# Altium integrated library TI Data Converters Digital to Analog Converter.IntLib: 1533 symbols (part 94 of 99)
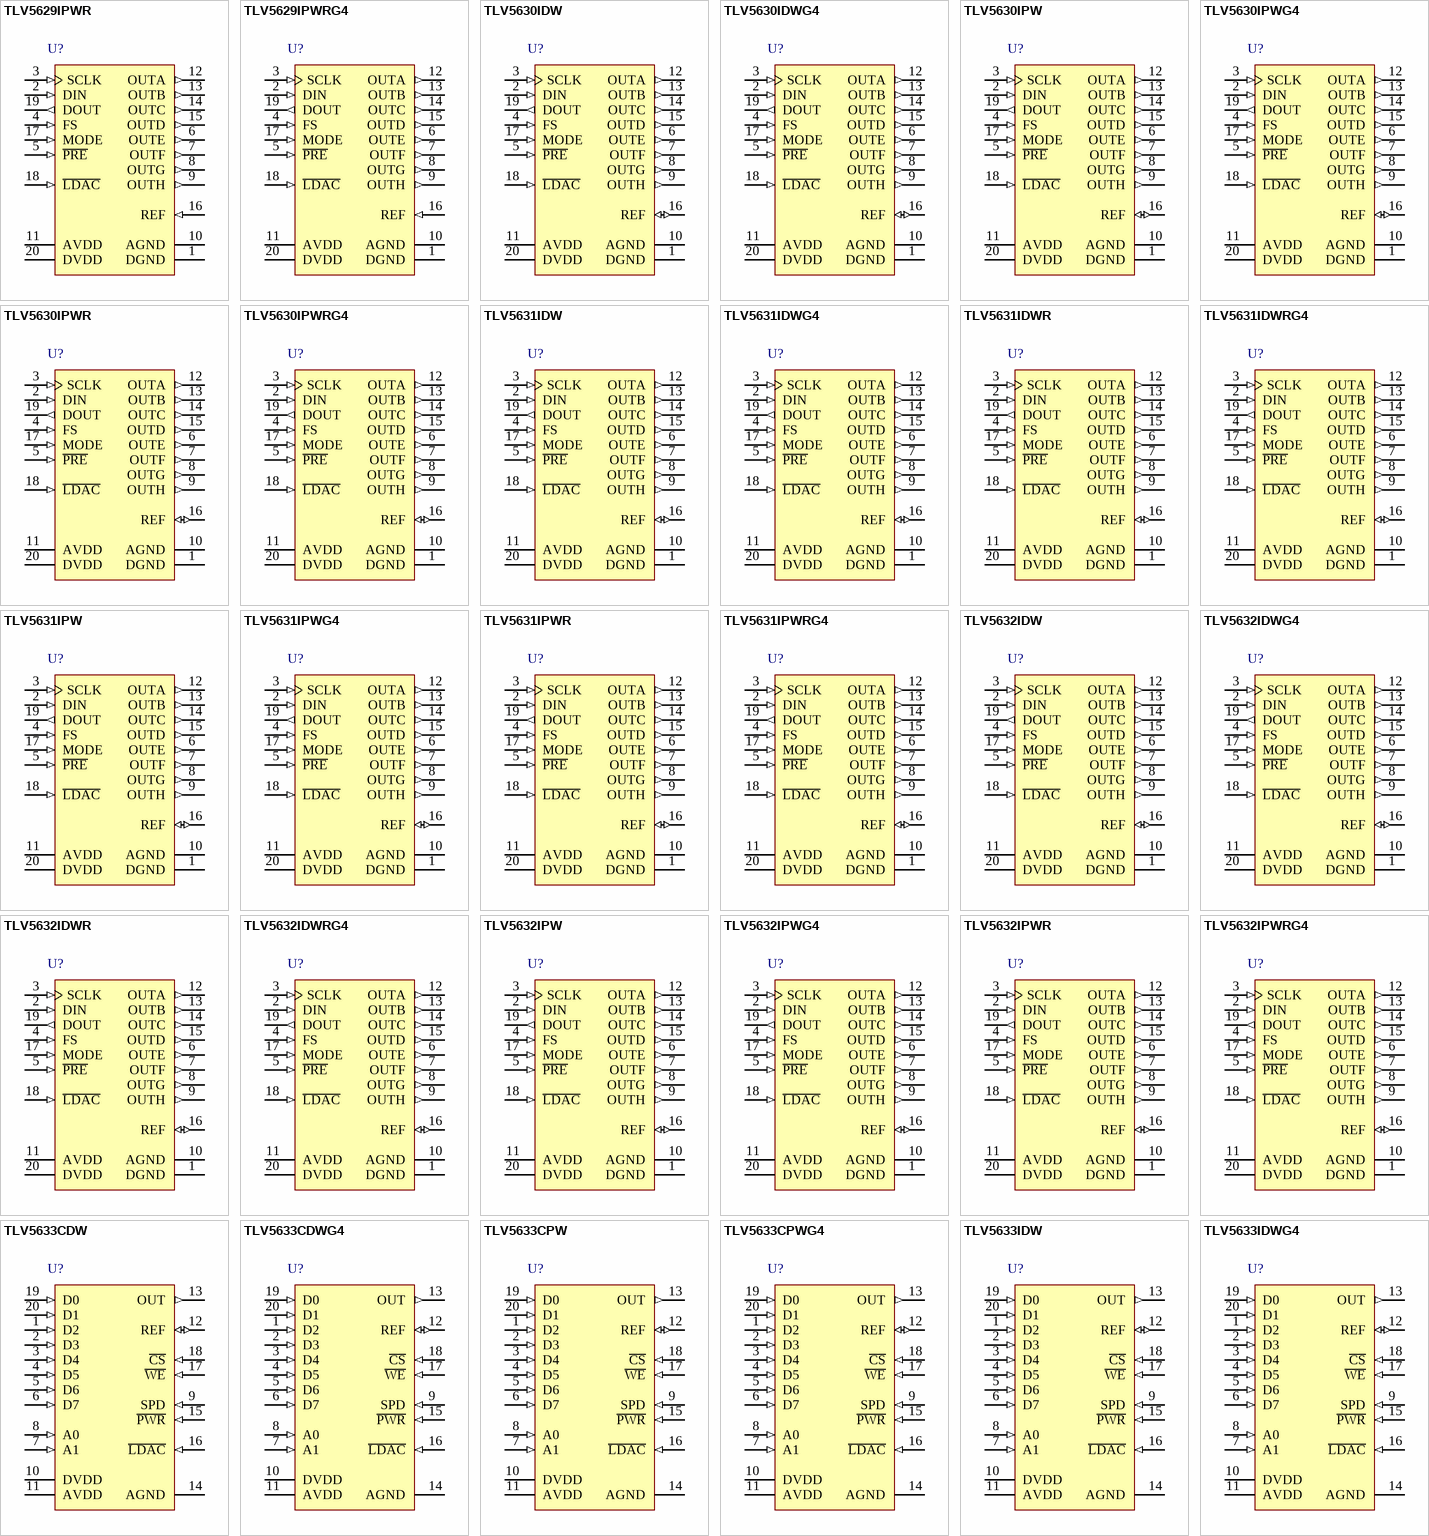
[diagram p166: symbols TLV5629IPWR to TLV5633IDWG4]

## TLV5631IDWR
designator U?
2.7 to 5.5 V 10-Bit 8-Channel Serial DAC with Internal Reference, -40 to 85 degC, 20-pin SOIC (DW20), Green (RoHS & no Sb/Br); Manufacturer: Texas Instruments; PartNumber: TLV5631IDWR; DAC Channels: 8; DNL(Max)(+/-LSB): 1; INL(Max)(+/-LSB): 2; Interface: Serial SPI; Power Consumption(Typ)(mW): 18; Resolution(Bits): 10; SubFamily: Precision DAC (=<10MSPS); DatasheetVersion: SLAS269F; PackageVersion: 4040000-4/G, 01/2011; PackageReference: DW20; PackageDescription: 20-Pin Plastic Small Outline, Body 12.8 x 7.5 mm, Pitch 1.27 mm; Supplier 1: Digi-Key; Supplier Part Number 1: TLV5631IDWR-ND; Supplier 2: Mouser; Supplier Part Number 2: 595-TLV5631IDWR; Eco-Plan: Green (RoHS & no Sb/Br); Settling Time(us): 1; Mounting Technology: Surface Mount; Code_JEDEC: MO-013; ComponentLink1Description: Manufacturer URL; ComponentLink1URL: http://www.ti.com/; ComponentLink2Description: Datasheet; ComponentLink2URL: http://www.ti.com/general/docs/lit/getliterature.tsp?genericPartNumber=TLV5631&fileType=pdf; ComponentLink3Description: Package Specification; ComponentLink3URL: http://www.ti.com/lit/ml/mpds173a/mpds173a.pdf
footprint TI-DW20_N (SOIC, 20-Leads, Body 12.8x7.5mm, Pitch 1.27mm, IPC Medium Density)
footprint TI-DW20_L (SOIC, 20-Leads, Body 12.8x7.5mm, Pitch 1.27mm, IPC High Density)
footprint TI-DW20_M (SOIC, 20-Leads, Body 12.8x7.5mm, Pitch 1.27mm, IPC Low Density)
pins: 1 DGND (power) "Digital ground", 2 DIN (in) "Digital serial data input", 3 SCLK (in) "Serial clock input", 4 FS (in) "Frame sync input", 5 ~{PRE} (in) "Preset input", 6 OUTE (out) "DAC output", 7 OUTF (out) "DAC output", 8 OUTG (out) "DAC output", 9 OUTH (out) "DAC output", 10 AGND (power) "Analog ground", 11 AVDD (power) "Analog power supply", 12 OUTA (out) "DAC output", 13 OUTB (out) "DAC output", 14 OUTC (out) "DAC output", 15 OUTD (out) "DAC output", 16 REF (io) "Voltage reference input/output", 17 MODE (in) "DSP/uC mode pin. High = uC mode, NC = DSP mode.", 18 ~{LDAC} (in) "Load DAC. The DAC outputs are only updated, if this signal is low. It is an asynchronous input.", 19 DOUT (out) "Digital serial data output", 20 DVDD (power) "Digital power supply"

## TLV5631IDWRG4
designator U?
2.7 to 5.5 V 10-Bit 8-Channel Serial DAC with Internal Reference, -40 to 85 degC, 20-pin SOIC (DW20), Green (RoHS & no Sb/Br); Manufacturer: Texas Instruments; PartNumber: TLV5631IDWRG4; DAC Channels: 8; DNL(Max)(+/-LSB): 1; INL(Max)(+/-LSB): 2; Interface: Serial SPI; Power Consumption(Typ)(mW): 18; Resolution(Bits): 10; SubFamily: Precision DAC (=<10MSPS); DatasheetVersion: SLAS269F; PackageVersion: 4040000-4/G, 01/2011; PackageReference: DW20; PackageDescription: 20-Pin Plastic Small Outline, Body 12.8 x 7.5 mm, Pitch 1.27 mm; Supplier 1: Digi-Key; Supplier Part Number 1: TLV5631IDWRG4-ND; Supplier 2: Mouser; Supplier Part Number 2: 595-TLV5631IDWRG4; Eco-Plan: Green (RoHS & no Sb/Br); Settling Time(us): 1; Mounting Technology: Surface Mount; Code_JEDEC: MO-013; ComponentLink1Description: Manufacturer URL; ComponentLink1URL: http://www.ti.com/; ComponentLink2Description: Datasheet; ComponentLink2URL: http://www.ti.com/general/docs/lit/getliterature.tsp?genericPartNumber=TLV5631&fileType=pdf; ComponentLink3Description: Package Specification; ComponentLink3URL: http://www.ti.com/lit/ml/mpds173a/mpds173a.pdf
footprint TI-DW20_N (SOIC, 20-Leads, Body 12.8x7.5mm, Pitch 1.27mm, IPC Medium Density)
footprint TI-DW20_L (SOIC, 20-Leads, Body 12.8x7.5mm, Pitch 1.27mm, IPC High Density)
footprint TI-DW20_M (SOIC, 20-Leads, Body 12.8x7.5mm, Pitch 1.27mm, IPC Low Density)
pins: 1 DGND (power) "Digital ground", 2 DIN (in) "Digital serial data input", 3 SCLK (in) "Serial clock input", 4 FS (in) "Frame sync input", 5 ~{PRE} (in) "Preset input", 6 OUTE (out) "DAC output", 7 OUTF (out) "DAC output", 8 OUTG (out) "DAC output", 9 OUTH (out) "DAC output", 10 AGND (power) "Analog ground", 11 AVDD (power) "Analog power supply", 12 OUTA (out) "DAC output", 13 OUTB (out) "DAC output", 14 OUTC (out) "DAC output", 15 OUTD (out) "DAC output", 16 REF (io) "Voltage reference input/output", 17 MODE (in) "DSP/uC mode pin. High = uC mode, NC = DSP mode.", 18 ~{LDAC} (in) "Load DAC. The DAC outputs are only updated, if this signal is low. It is an asynchronous input.", 19 DOUT (out) "Digital serial data output", 20 DVDD (power) "Digital power supply"

## TLV5631IPW
designator U?
2.7 to 5.5 V 10-Bit 8-Channel Serial DAC with Internal Reference, -40 to 85 degC, 20-pin SOP (PW20), Green (RoHS & no Sb/Br); Manufacturer: Texas Instruments; PartNumber: TLV5631IPW; DAC Channels: 8; DNL(Max)(+/-LSB): 1; INL(Max)(+/-LSB): 2; Interface: Serial SPI; Power Consumption(Typ)(mW): 18; Resolution(Bits): 10; SubFamily: Precision DAC (=<10MSPS); DatasheetVersion: SLAS269F; PackageVersion: 4040064-5/G, 02/2011; PackageReference: PW20; PackageDescription: 20-Pin Plastic Small Outline, Body 6.5 x 4.4 mm, Pitch 0.65 mm; Supplier 1: Digi-Key; Supplier Part Number 1: 296-3068-5-ND; Supplier 2: Farnell; Supplier Part Number 2: 1460327; Supplier 3: Newark; Supplier Part Number 3: 62M0549; Supplier 4: Newark; Supplier Part Number 4: 72K9580; Supplier 5: Mouser; Supplier Part Number 5: 595-TLV5631IPW; Eco-Plan: Green (RoHS & no Sb/Br); Settling Time(us): 1; Mounting Technology: Surface Mount; Code_JEDEC: MO-153; ComponentLink1Description: Manufacturer URL; ComponentLink1URL: http://www.ti.com/; ComponentLink2Description: Datasheet; ComponentLink2URL: http://www.ti.com/general/docs/lit/getliterature.tsp?genericPartNumber=TLV5631&fileType=pdf; ComponentLink3Description: Package Specification; ComponentLink3URL: http://www.ti.com.cn/cn/lit/ml/mpds362/mpds362.pdf
footprint TI-PW20_N (SOP, 20-Leads, Body 6.5x4.4mm, Pitch 0.65mm, IPC Medium Density)
footprint TI-PW20_L (SOP, 20-Leads, Body 6.5x4.4mm, Pitch 0.65mm, IPC High Density)
footprint TI-PW20_M (SOP, 20-Leads, Body 6.5x4.4mm, Pitch 0.65mm, IPC Low Density)
pins: 1 DGND (power) "Digital ground", 2 DIN (in) "Digital serial data input", 3 SCLK (in) "Serial clock input", 4 FS (in) "Frame sync input", 5 ~{PRE} (in) "Preset input", 6 OUTE (out) "DAC output", 7 OUTF (out) "DAC output", 8 OUTG (out) "DAC output", 9 OUTH (out) "DAC output", 10 AGND (power) "Analog ground", 11 AVDD (power) "Analog power supply", 12 OUTA (out) "DAC output", 13 OUTB (out) "DAC output", 14 OUTC (out) "DAC output", 15 OUTD (out) "DAC output", 16 REF (io) "Voltage reference input/output", 17 MODE (in) "DSP/uC mode pin. High = uC mode, NC = DSP mode.", 18 ~{LDAC} (in) "Load DAC. The DAC outputs are only updated, if this signal is low. It is an asynchronous input.", 19 DOUT (out) "Digital serial data output", 20 DVDD (power) "Digital power supply"

## TLV5631IPWG4
designator U?
2.7 to 5.5 V 10-Bit 8-Channel Serial DAC with Internal Reference, -40 to 85 degC, 20-pin SOP (PW20), Green (RoHS & no Sb/Br); Manufacturer: Texas Instruments; PartNumber: TLV5631IPWG4; DAC Channels: 8; DNL(Max)(+/-LSB): 1; INL(Max)(+/-LSB): 2; Interface: Serial SPI; Power Consumption(Typ)(mW): 18; Resolution(Bits): 10; SubFamily: Precision DAC (=<10MSPS); DatasheetVersion: SLAS269F; PackageVersion: 4040064-5/G, 02/2011; PackageReference: PW20; PackageDescription: 20-Pin Plastic Small Outline, Body 6.5 x 4.4 mm, Pitch 0.65 mm; Supplier 1: Digi-Key; Supplier Part Number 1: TLV5631IPWG4-ND; Supplier 2: Mouser; Supplier Part Number 2: 595-TLV5631IPWG4; Eco-Plan: Green (RoHS & no Sb/Br); Settling Time(us): 1; Mounting Technology: Surface Mount; Code_JEDEC: MO-153; ComponentLink1Description: Manufacturer URL; ComponentLink1URL: http://www.ti.com/; ComponentLink2Description: Datasheet; ComponentLink2URL: http://www.ti.com/general/docs/lit/getliterature.tsp?genericPartNumber=TLV5631&fileType=pdf; ComponentLink3Description: Package Specification; ComponentLink3URL: http://www.ti.com.cn/cn/lit/ml/mpds362/mpds362.pdf
footprint TI-PW20_N (SOP, 20-Leads, Body 6.5x4.4mm, Pitch 0.65mm, IPC Medium Density)
footprint TI-PW20_L (SOP, 20-Leads, Body 6.5x4.4mm, Pitch 0.65mm, IPC High Density)
footprint TI-PW20_M (SOP, 20-Leads, Body 6.5x4.4mm, Pitch 0.65mm, IPC Low Density)
pins: 1 DGND (power) "Digital ground", 2 DIN (in) "Digital serial data input", 3 SCLK (in) "Serial clock input", 4 FS (in) "Frame sync input", 5 ~{PRE} (in) "Preset input", 6 OUTE (out) "DAC output", 7 OUTF (out) "DAC output", 8 OUTG (out) "DAC output", 9 OUTH (out) "DAC output", 10 AGND (power) "Analog ground", 11 AVDD (power) "Analog power supply", 12 OUTA (out) "DAC output", 13 OUTB (out) "DAC output", 14 OUTC (out) "DAC output", 15 OUTD (out) "DAC output", 16 REF (io) "Voltage reference input/output", 17 MODE (in) "DSP/uC mode pin. High = uC mode, NC = DSP mode.", 18 ~{LDAC} (in) "Load DAC. The DAC outputs are only updated, if this signal is low. It is an asynchronous input.", 19 DOUT (out) "Digital serial data output", 20 DVDD (power) "Digital power supply"

## TLV5631IPWR
designator U?
2.7 to 5.5 V 10-Bit 8-Channel Serial DAC with Internal Reference, -40 to 85 degC, 20-pin SOP (PW20), Green (RoHS & no Sb/Br); Manufacturer: Texas Instruments; PartNumber: TLV5631IPWR; DAC Channels: 8; DNL(Max)(+/-LSB): 1; INL(Max)(+/-LSB): 2; Interface: Serial SPI; Power Consumption(Typ)(mW): 18; Resolution(Bits): 10; SubFamily: Precision DAC (=<10MSPS); DatasheetVersion: SLAS269F; PackageVersion: 4040064-5/G, 02/2011; PackageReference: PW20; PackageDescription: 20-Pin Plastic Small Outline, Body 6.5 x 4.4 mm, Pitch 0.65 mm; Supplier 1: Digi-Key; Supplier Part Number 1: TLV5631IPWR-ND; Supplier 2: Newark; Supplier Part Number 2: 76C8975; Supplier 3: Mouser; Supplier Part Number 3: 595-TLV5631IPWR; Eco-Plan: Green (RoHS & no Sb/Br); Settling Time(us): 1; Mounting Technology: Surface Mount; Code_JEDEC: MO-153; ComponentLink1Description: Manufacturer URL; ComponentLink1URL: http://www.ti.com/; ComponentLink2Description: Datasheet; ComponentLink2URL: http://www.ti.com/general/docs/lit/getliterature.tsp?genericPartNumber=TLV5631&fileType=pdf; ComponentLink3Description: Package Specification; ComponentLink3URL: http://www.ti.com.cn/cn/lit/ml/mpds362/mpds362.pdf
footprint TI-PW20_N (SOP, 20-Leads, Body 6.5x4.4mm, Pitch 0.65mm, IPC Medium Density)
footprint TI-PW20_L (SOP, 20-Leads, Body 6.5x4.4mm, Pitch 0.65mm, IPC High Density)
footprint TI-PW20_M (SOP, 20-Leads, Body 6.5x4.4mm, Pitch 0.65mm, IPC Low Density)
pins: 1 DGND (power) "Digital ground", 2 DIN (in) "Digital serial data input", 3 SCLK (in) "Serial clock input", 4 FS (in) "Frame sync input", 5 ~{PRE} (in) "Preset input", 6 OUTE (out) "DAC output", 7 OUTF (out) "DAC output", 8 OUTG (out) "DAC output", 9 OUTH (out) "DAC output", 10 AGND (power) "Analog ground", 11 AVDD (power) "Analog power supply", 12 OUTA (out) "DAC output", 13 OUTB (out) "DAC output", 14 OUTC (out) "DAC output", 15 OUTD (out) "DAC output", 16 REF (io) "Voltage reference input/output", 17 MODE (in) "DSP/uC mode pin. High = uC mode, NC = DSP mode.", 18 ~{LDAC} (in) "Load DAC. The DAC outputs are only updated, if this signal is low. It is an asynchronous input.", 19 DOUT (out) "Digital serial data output", 20 DVDD (power) "Digital power supply"

## TLV5631IPWRG4
designator U?
2.7 to 5.5 V 10-Bit 8-Channel Serial DAC with Internal Reference, -40 to 85 degC, 20-pin SOP (PW20), Green (RoHS & no Sb/Br); Manufacturer: Texas Instruments; PartNumber: TLV5631IPWRG4; DAC Channels: 8; DNL(Max)(+/-LSB): 1; INL(Max)(+/-LSB): 2; Interface: Serial SPI; Power Consumption(Typ)(mW): 18; Resolution(Bits): 10; SubFamily: Precision DAC (=<10MSPS); DatasheetVersion: SLAS269F; PackageVersion: 4040064-5/G, 02/2011; PackageReference: PW20; PackageDescription: 20-Pin Plastic Small Outline, Body 6.5 x 4.4 mm, Pitch 0.65 mm; Supplier 1: Digi-Key; Supplier Part Number 1: TLV5631IPWRG4-ND; Supplier 2: Newark; Supplier Part Number 2: 54K1402; Supplier 3: Mouser; Supplier Part Number 3: 595-TLV5631IPWRG4; Eco-Plan: Green (RoHS & no Sb/Br); Settling Time(us): 1; Mounting Technology: Surface Mount; Code_JEDEC: MO-153; ComponentLink1Description: Manufacturer URL; ComponentLink1URL: http://www.ti.com/; ComponentLink2Description: Datasheet; ComponentLink2URL: http://www.ti.com/general/docs/lit/getliterature.tsp?genericPartNumber=TLV5631&fileType=pdf; ComponentLink3Description: Package Specification; ComponentLink3URL: http://www.ti.com.cn/cn/lit/ml/mpds362/mpds362.pdf
footprint TI-PW20_N (SOP, 20-Leads, Body 6.5x4.4mm, Pitch 0.65mm, IPC Medium Density)
footprint TI-PW20_L (SOP, 20-Leads, Body 6.5x4.4mm, Pitch 0.65mm, IPC High Density)
footprint TI-PW20_M (SOP, 20-Leads, Body 6.5x4.4mm, Pitch 0.65mm, IPC Low Density)
pins: 1 DGND (power) "Digital ground", 2 DIN (in) "Digital serial data input", 3 SCLK (in) "Serial clock input", 4 FS (in) "Frame sync input", 5 ~{PRE} (in) "Preset input", 6 OUTE (out) "DAC output", 7 OUTF (out) "DAC output", 8 OUTG (out) "DAC output", 9 OUTH (out) "DAC output", 10 AGND (power) "Analog ground", 11 AVDD (power) "Analog power supply", 12 OUTA (out) "DAC output", 13 OUTB (out) "DAC output", 14 OUTC (out) "DAC output", 15 OUTD (out) "DAC output", 16 REF (io) "Voltage reference input/output", 17 MODE (in) "DSP/uC mode pin. High = uC mode, NC = DSP mode.", 18 ~{LDAC} (in) "Load DAC. The DAC outputs are only updated, if this signal is low. It is an asynchronous input.", 19 DOUT (out) "Digital serial data output", 20 DVDD (power) "Digital power supply"

## TLV5632IDW
designator U?
8-Bit 8-Channel DAC, Serial Input, Programmable Settling Time / Power Consumption, Low Power, Power Down, Internal Reference, -40 to 85 degC, 20-pin SOIC (DW20), Green (RoHS & no Sb/Br); Manufacturer: Texas Instruments; PartNumber: TLV5632IDW; DAC Channels: 8; DNL(Max)(+/-LSB): 1; Interface: Serial SPI; Power Consumption(Typ)(mW): 18; SubFamily: Precision DAC (=<10MSPS); DatasheetVersion: SLAS269F; PackageVersion: 4040000-4/G, 01/2011; PackageReference: DW20; PackageDescription: 20-Pin Plastic Small Outline, Body 12.8 x 7.5 mm, Pitch 1.27 mm; Supplier 1: Digi-Key; Supplier Part Number 1: 296-3069-5-ND; Supplier 2: Newark; Supplier Part Number 2: 27C4862; Supplier 3: Mouser; Supplier Part Number 3: 595-TLV5632IDW; Eco-Plan: Green (RoHS & no Sb/Br); INL(Max)(+/-LSB): 1; Resolution(Bits): 8; Settling Time(us): 1; Mounting Technology: Surface Mount; Code_JEDEC: MO-013; ComponentLink1Description: Manufacturer URL; ComponentLink1URL: http://www.ti.com/; ComponentLink2Description: Datasheet; ComponentLink2URL: http://www.ti.com/general/docs/lit/getliterature.tsp?genericPartNumber=TLV5632&fileType=pdf; ComponentLink3Description: Package Specification; ComponentLink3URL: http://www.ti.com/lit/ml/mpds173a/mpds173a.pdf
footprint TI-DW20_N (SOIC, 20-Leads, Body 12.8x7.5mm, Pitch 1.27mm, IPC Medium Density)
footprint TI-DW20_L (SOIC, 20-Leads, Body 12.8x7.5mm, Pitch 1.27mm, IPC High Density)
footprint TI-DW20_M (SOIC, 20-Leads, Body 12.8x7.5mm, Pitch 1.27mm, IPC Low Density)
pins: 1 DGND (power) "Digital ground", 2 DIN (in) "Digital serial data input", 3 SCLK (in) "Serial clock input", 4 FS (in) "Frame sync input", 5 ~{PRE} (in) "Preset input", 6 OUTE (out) "DAC output", 7 OUTF (out) "DAC output", 8 OUTG (out) "DAC output", 9 OUTH (out) "DAC output", 10 AGND (power) "Analog ground", 11 AVDD (power) "Analog power supply", 12 OUTA (out) "DAC output", 13 OUTB (out) "DAC output", 14 OUTC (out) "DAC output", 15 OUTD (out) "DAC output", 16 REF (io) "Voltage reference input/output", 17 MODE (in) "DSP/uC mode pin. High = uC mode, NC = DSP mode.", 18 ~{LDAC} (in) "Load DAC. The DAC outputs are only updated, if this signal is low. It is an asynchronous input.", 19 DOUT (out) "Digital serial data output", 20 DVDD (power) "Digital power supply"

## TLV5632IDWG4
designator U?
8-Bit 8-Channel DAC, Serial Input, Programmable Settling Time / Power Consumption, Low Power, Power Down, Internal Reference, -40 to 85 degC, 20-pin SOIC (DW20), Green (RoHS & no Sb/Br); Manufacturer: Texas Instruments; PartNumber: TLV5632IDWG4; DAC Channels: 8; DNL(Max)(+/-LSB): 1; Interface: Serial SPI; Power Consumption(Typ)(mW): 18; SubFamily: Precision DAC (=<10MSPS); DatasheetVersion: SLAS269F; PackageVersion: 4040000-4/G, 01/2011; PackageReference: DW20; PackageDescription: 20-Pin Plastic Small Outline, Body 12.8 x 7.5 mm, Pitch 1.27 mm; Supplier 1: Digi-Key; Supplier Part Number 1: TLV5632IDWG4-ND; Supplier 2: Mouser; Supplier Part Number 2: 595-TLV5632IDWG4; Eco-Plan: Green (RoHS & no Sb/Br); INL(Max)(+/-LSB): 1; Resolution(Bits): 8; Settling Time(us): 1; Mounting Technology: Surface Mount; Code_JEDEC: MO-013; ComponentLink1Description: Manufacturer URL; ComponentLink1URL: http://www.ti.com/; ComponentLink2Description: Datasheet; ComponentLink2URL: http://www.ti.com/general/docs/lit/getliterature.tsp?genericPartNumber=TLV5632&fileType=pdf; ComponentLink3Description: Package Specification; ComponentLink3URL: http://www.ti.com/lit/ml/mpds173a/mpds173a.pdf
footprint TI-DW20_N (SOIC, 20-Leads, Body 12.8x7.5mm, Pitch 1.27mm, IPC Medium Density)
footprint TI-DW20_L (SOIC, 20-Leads, Body 12.8x7.5mm, Pitch 1.27mm, IPC High Density)
footprint TI-DW20_M (SOIC, 20-Leads, Body 12.8x7.5mm, Pitch 1.27mm, IPC Low Density)
pins: 1 DGND (power) "Digital ground", 2 DIN (in) "Digital serial data input", 3 SCLK (in) "Serial clock input", 4 FS (in) "Frame sync input", 5 ~{PRE} (in) "Preset input", 6 OUTE (out) "DAC output", 7 OUTF (out) "DAC output", 8 OUTG (out) "DAC output", 9 OUTH (out) "DAC output", 10 AGND (power) "Analog ground", 11 AVDD (power) "Analog power supply", 12 OUTA (out) "DAC output", 13 OUTB (out) "DAC output", 14 OUTC (out) "DAC output", 15 OUTD (out) "DAC output", 16 REF (io) "Voltage reference input/output", 17 MODE (in) "DSP/uC mode pin. High = uC mode, NC = DSP mode.", 18 ~{LDAC} (in) "Load DAC. The DAC outputs are only updated, if this signal is low. It is an asynchronous input.", 19 DOUT (out) "Digital serial data output", 20 DVDD (power) "Digital power supply"

## TLV5632IDWR
designator U?
8-Bit 8-Channel DAC, Serial Input, Programmable Settling Time / Power Consumption, Low Power, Power Down, Internal Reference, -40 to 85 degC, 20-pin SOIC (DW20), Green (RoHS & no Sb/Br); Manufacturer: Texas Instruments; PartNumber: TLV5632IDWR; DAC Channels: 8; DNL(Max)(+/-LSB): 1; Interface: Serial SPI; Power Consumption(Typ)(mW): 18; SubFamily: Precision DAC (=<10MSPS); DatasheetVersion: SLAS269F; PackageVersion: 4040000-4/G, 01/2011; PackageReference: DW20; PackageDescription: 20-Pin Plastic Small Outline, Body 12.8 x 7.5 mm, Pitch 1.27 mm; Supplier 1: Digi-Key; Supplier Part Number 1: TLV5632IDWR-ND; Supplier 2: Newark; Supplier Part Number 2: 76C8976; Supplier 3: Mouser; Supplier Part Number 3: 595-TLV5632IDWR; Eco-Plan: Green (RoHS & no Sb/Br); INL(Max)(+/-LSB): 1; Resolution(Bits): 8; Settling Time(us): 1; Mounting Technology: Surface Mount; Code_JEDEC: MO-013; ComponentLink1Description: Manufacturer URL; ComponentLink1URL: http://www.ti.com/; ComponentLink2Description: Datasheet; ComponentLink2URL: http://www.ti.com/general/docs/lit/getliterature.tsp?genericPartNumber=TLV5632&fileType=pdf; ComponentLink3Description: Package Specification; ComponentLink3URL: http://www.ti.com/lit/ml/mpds173a/mpds173a.pdf
footprint TI-DW20_N (SOIC, 20-Leads, Body 12.8x7.5mm, Pitch 1.27mm, IPC Medium Density)
footprint TI-DW20_L (SOIC, 20-Leads, Body 12.8x7.5mm, Pitch 1.27mm, IPC High Density)
footprint TI-DW20_M (SOIC, 20-Leads, Body 12.8x7.5mm, Pitch 1.27mm, IPC Low Density)
pins: 1 DGND (power) "Digital ground", 2 DIN (in) "Digital serial data input", 3 SCLK (in) "Serial clock input", 4 FS (in) "Frame sync input", 5 ~{PRE} (in) "Preset input", 6 OUTE (out) "DAC output", 7 OUTF (out) "DAC output", 8 OUTG (out) "DAC output", 9 OUTH (out) "DAC output", 10 AGND (power) "Analog ground", 11 AVDD (power) "Analog power supply", 12 OUTA (out) "DAC output", 13 OUTB (out) "DAC output", 14 OUTC (out) "DAC output", 15 OUTD (out) "DAC output", 16 REF (io) "Voltage reference input/output", 17 MODE (in) "DSP/uC mode pin. High = uC mode, NC = DSP mode.", 18 ~{LDAC} (in) "Load DAC. The DAC outputs are only updated, if this signal is low. It is an asynchronous input.", 19 DOUT (out) "Digital serial data output", 20 DVDD (power) "Digital power supply"

## TLV5632IDWRG4
designator U?
8-Bit 8-Channel DAC, Serial Input, Programmable Settling Time / Power Consumption, Low Power, Power Down, Internal Reference, -40 to 85 degC, 20-pin SOIC (DW20), Green (RoHS & no Sb/Br); Manufacturer: Texas Instruments; PartNumber: TLV5632IDWRG4; DAC Channels: 8; DNL(Max)(+/-LSB): 1; Interface: Serial SPI; Power Consumption(Typ)(mW): 18; SubFamily: Precision DAC (=<10MSPS); DatasheetVersion: SLAS269F; PackageVersion: 4040000-4/G, 01/2011; PackageReference: DW20; PackageDescription: 20-Pin Plastic Small Outline, Body 12.8 x 7.5 mm, Pitch 1.27 mm; Supplier 1: Digi-Key; Supplier Part Number 1: TLV5632IDWRG4-ND; Supplier 2: Mouser; Supplier Part Number 2: 595-TLV5632IDWRG4; Eco-Plan: Green (RoHS & no Sb/Br); INL(Max)(+/-LSB): 1; Resolution(Bits): 8; Settling Time(us): 1; Mounting Technology: Surface Mount; Code_JEDEC: MO-013; ComponentLink1Description: Manufacturer URL; ComponentLink1URL: http://www.ti.com/; ComponentLink2Description: Datasheet; ComponentLink2URL: http://www.ti.com/general/docs/lit/getliterature.tsp?genericPartNumber=TLV5632&fileType=pdf; ComponentLink3Description: Package Specification; ComponentLink3URL: http://www.ti.com/lit/ml/mpds173a/mpds173a.pdf
footprint TI-DW20_N (SOIC, 20-Leads, Body 12.8x7.5mm, Pitch 1.27mm, IPC Medium Density)
footprint TI-DW20_L (SOIC, 20-Leads, Body 12.8x7.5mm, Pitch 1.27mm, IPC High Density)
footprint TI-DW20_M (SOIC, 20-Leads, Body 12.8x7.5mm, Pitch 1.27mm, IPC Low Density)
pins: 1 DGND (power) "Digital ground", 2 DIN (in) "Digital serial data input", 3 SCLK (in) "Serial clock input", 4 FS (in) "Frame sync input", 5 ~{PRE} (in) "Preset input", 6 OUTE (out) "DAC output", 7 OUTF (out) "DAC output", 8 OUTG (out) "DAC output", 9 OUTH (out) "DAC output", 10 AGND (power) "Analog ground", 11 AVDD (power) "Analog power supply", 12 OUTA (out) "DAC output", 13 OUTB (out) "DAC output", 14 OUTC (out) "DAC output", 15 OUTD (out) "DAC output", 16 REF (io) "Voltage reference input/output", 17 MODE (in) "DSP/uC mode pin. High = uC mode, NC = DSP mode.", 18 ~{LDAC} (in) "Load DAC. The DAC outputs are only updated, if this signal is low. It is an asynchronous input.", 19 DOUT (out) "Digital serial data output", 20 DVDD (power) "Digital power supply"

## TLV5632IPW
designator U?
8-Bit 8-Channel DAC, Serial Input, Programmable Settling Time / Power Consumption, Low Power, Power Down, Internal Reference, -40 to 85 degC, 20-pin SOP (PW20), Green (RoHS & no Sb/Br); Manufacturer: Texas Instruments; PartNumber: TLV5632IPW; DAC Channels: 8; DNL(Max)(+/-LSB): 1; Interface: Serial SPI; Power Consumption(Typ)(mW): 18; SubFamily: Precision DAC (=<10MSPS); DatasheetVersion: SLAS269F; PackageVersion: 4040064-5/G, 02/2011; PackageReference: PW20; PackageDescription: 20-Pin Plastic Small Outline, Body 6.5 x 4.4 mm, Pitch 0.65 mm; Supplier 1: Digi-Key; Supplier Part Number 1: 296-3070-5-ND; Supplier 2: Newark; Supplier Part Number 2: 74K3967; Supplier 3: Mouser; Supplier Part Number 3: 595-TLV5632IPW; Eco-Plan: Green (RoHS & no Sb/Br); INL(Max)(+/-LSB): 1; Resolution(Bits): 8; Settling Time(us): 1; Mounting Technology: Surface Mount; Code_JEDEC: MO-153; ComponentLink1Description: Manufacturer URL; ComponentLink1URL: http://www.ti.com/; ComponentLink2Description: Datasheet; ComponentLink2URL: http://www.ti.com/general/docs/lit/getliterature.tsp?genericPartNumber=TLV5632&fileType=pdf; ComponentLink3Description: Package Specification; ComponentLink3URL: http://www.ti.com.cn/cn/lit/ml/mpds362/mpds362.pdf
footprint TI-PW20_N (SOP, 20-Leads, Body 6.5x4.4mm, Pitch 0.65mm, IPC Medium Density)
footprint TI-PW20_L (SOP, 20-Leads, Body 6.5x4.4mm, Pitch 0.65mm, IPC High Density)
footprint TI-PW20_M (SOP, 20-Leads, Body 6.5x4.4mm, Pitch 0.65mm, IPC Low Density)
pins: 1 DGND (power) "Digital ground", 2 DIN (in) "Digital serial data input", 3 SCLK (in) "Serial clock input", 4 FS (in) "Frame sync input", 5 ~{PRE} (in) "Preset input", 6 OUTE (out) "DAC output", 7 OUTF (out) "DAC output", 8 OUTG (out) "DAC output", 9 OUTH (out) "DAC output", 10 AGND (power) "Analog ground", 11 AVDD (power) "Analog power supply", 12 OUTA (out) "DAC output", 13 OUTB (out) "DAC output", 14 OUTC (out) "DAC output", 15 OUTD (out) "DAC output", 16 REF (io) "Voltage reference input/output", 17 MODE (in) "DSP/uC mode pin. High = uC mode, NC = DSP mode.", 18 ~{LDAC} (in) "Load DAC. The DAC outputs are only updated, if this signal is low. It is an asynchronous input.", 19 DOUT (out) "Digital serial data output", 20 DVDD (power) "Digital power supply"

## TLV5632IPWG4
designator U?
8-Bit 8-Channel DAC, Serial Input, Programmable Settling Time / Power Consumption, Low Power, Power Down, Internal Reference, -40 to 85 degC, 20-pin SOP (PW20), Green (RoHS & no Sb/Br); Manufacturer: Texas Instruments; PartNumber: TLV5632IPWG4; DAC Channels: 8; DNL(Max)(+/-LSB): 1; Interface: Serial SPI; Power Consumption(Typ)(mW): 18; SubFamily: Precision DAC (=<10MSPS); DatasheetVersion: SLAS269F; PackageVersion: 4040064-5/G, 02/2011; PackageReference: PW20; PackageDescription: 20-Pin Plastic Small Outline, Body 6.5 x 4.4 mm, Pitch 0.65 mm; Supplier 1: Digi-Key; Supplier Part Number 1: TLV5632IPWG4-ND; Supplier 2: Mouser; Supplier Part Number 2: 595-TLV5632IPWG4; Eco-Plan: Green (RoHS & no Sb/Br); INL(Max)(+/-LSB): 1; Resolution(Bits): 8; Settling Time(us): 1; Mounting Technology: Surface Mount; Code_JEDEC: MO-153; ComponentLink1Description: Manufacturer URL; ComponentLink1URL: http://www.ti.com/; ComponentLink2Description: Datasheet; ComponentLink2URL: http://www.ti.com/general/docs/lit/getliterature.tsp?genericPartNumber=TLV5632&fileType=pdf; ComponentLink3Description: Package Specification; ComponentLink3URL: http://www.ti.com.cn/cn/lit/ml/mpds362/mpds362.pdf
footprint TI-PW20_N (SOP, 20-Leads, Body 6.5x4.4mm, Pitch 0.65mm, IPC Medium Density)
footprint TI-PW20_L (SOP, 20-Leads, Body 6.5x4.4mm, Pitch 0.65mm, IPC High Density)
footprint TI-PW20_M (SOP, 20-Leads, Body 6.5x4.4mm, Pitch 0.65mm, IPC Low Density)
pins: 1 DGND (power) "Digital ground", 2 DIN (in) "Digital serial data input", 3 SCLK (in) "Serial clock input", 4 FS (in) "Frame sync input", 5 ~{PRE} (in) "Preset input", 6 OUTE (out) "DAC output", 7 OUTF (out) "DAC output", 8 OUTG (out) "DAC output", 9 OUTH (out) "DAC output", 10 AGND (power) "Analog ground", 11 AVDD (power) "Analog power supply", 12 OUTA (out) "DAC output", 13 OUTB (out) "DAC output", 14 OUTC (out) "DAC output", 15 OUTD (out) "DAC output", 16 REF (io) "Voltage reference input/output", 17 MODE (in) "DSP/uC mode pin. High = uC mode, NC = DSP mode.", 18 ~{LDAC} (in) "Load DAC. The DAC outputs are only updated, if this signal is low. It is an asynchronous input.", 19 DOUT (out) "Digital serial data output", 20 DVDD (power) "Digital power supply"

## TLV5632IPWR
designator U?
8-Bit 8-Channel DAC, Serial Input, Programmable Settling Time / Power Consumption, Low Power, Power Down, Internal Reference, -40 to 85 degC, 20-pin SOP (PW20), Green (RoHS & no Sb/Br); Manufacturer: Texas Instruments; PartNumber: TLV5632IPWR; DAC Channels: 8; DNL(Max)(+/-LSB): 1; Interface: Serial SPI; Power Consumption(Typ)(mW): 18; SubFamily: Precision DAC (=<10MSPS); DatasheetVersion: SLAS269F; PackageVersion: 4040064-5/G, 02/2011; PackageReference: PW20; PackageDescription: 20-Pin Plastic Small Outline, Body 6.5 x 4.4 mm, Pitch 0.65 mm; Supplier 1: Digi-Key; Supplier Part Number 1: TLV5632IPWR-ND; Supplier 2: Mouser; Supplier Part Number 2: 595-TLV5632IPWR; Eco-Plan: Green (RoHS & no Sb/Br); INL(Max)(+/-LSB): 1; Resolution(Bits): 8; Settling Time(us): 1; Mounting Technology: Surface Mount; Code_JEDEC: MO-153; ComponentLink1Description: Manufacturer URL; ComponentLink1URL: http://www.ti.com/; ComponentLink2Description: Datasheet; ComponentLink2URL: http://www.ti.com/general/docs/lit/getliterature.tsp?genericPartNumber=TLV5632&fileType=pdf; ComponentLink3Description: Package Specification; ComponentLink3URL: http://www.ti.com.cn/cn/lit/ml/mpds362/mpds362.pdf
footprint TI-PW20_N (SOP, 20-Leads, Body 6.5x4.4mm, Pitch 0.65mm, IPC Medium Density)
footprint TI-PW20_L (SOP, 20-Leads, Body 6.5x4.4mm, Pitch 0.65mm, IPC High Density)
footprint TI-PW20_M (SOP, 20-Leads, Body 6.5x4.4mm, Pitch 0.65mm, IPC Low Density)
pins: 1 DGND (power) "Digital ground", 2 DIN (in) "Digital serial data input", 3 SCLK (in) "Serial clock input", 4 FS (in) "Frame sync input", 5 ~{PRE} (in) "Preset input", 6 OUTE (out) "DAC output", 7 OUTF (out) "DAC output", 8 OUTG (out) "DAC output", 9 OUTH (out) "DAC output", 10 AGND (power) "Analog ground", 11 AVDD (power) "Analog power supply", 12 OUTA (out) "DAC output", 13 OUTB (out) "DAC output", 14 OUTC (out) "DAC output", 15 OUTD (out) "DAC output", 16 REF (io) "Voltage reference input/output", 17 MODE (in) "DSP/uC mode pin. High = uC mode, NC = DSP mode.", 18 ~{LDAC} (in) "Load DAC. The DAC outputs are only updated, if this signal is low. It is an asynchronous input.", 19 DOUT (out) "Digital serial data output", 20 DVDD (power) "Digital power supply"

## TLV5632IPWRG4
designator U?
8-Bit 8-Channel DAC, Serial Input, Programmable Settling Time / Power Consumption, Low Power, Power Down, Internal Reference, -40 to 85 degC, 20-pin SOP (PW20), Green (RoHS & no Sb/Br); Manufacturer: Texas Instruments; PartNumber: TLV5632IPWRG4; DAC Channels: 8; DNL(Max)(+/-LSB): 1; Interface: Serial SPI; Power Consumption(Typ)(mW): 18; SubFamily: Precision DAC (=<10MSPS); DatasheetVersion: SLAS269F; PackageVersion: 4040064-5/G, 02/2011; PackageReference: PW20; PackageDescription: 20-Pin Plastic Small Outline, Body 6.5 x 4.4 mm, Pitch 0.65 mm; Supplier 1: Digi-Key; Supplier Part Number 1: TLV5632IPWRG4-ND; Supplier 2: Mouser; Supplier Part Number 2: 595-TLV5632IPWRG4; Eco-Plan: Green (RoHS & no Sb/Br); INL(Max)(+/-LSB): 1; Resolution(Bits): 8; Settling Time(us): 1; Mounting Technology: Surface Mount; Code_JEDEC: MO-153; ComponentLink1Description: Manufacturer URL; ComponentLink1URL: http://www.ti.com/; ComponentLink2Description: Datasheet; ComponentLink2URL: http://www.ti.com/general/docs/lit/getliterature.tsp?genericPartNumber=TLV5632&fileType=pdf; ComponentLink3Description: Package Specification; ComponentLink3URL: http://www.ti.com.cn/cn/lit/ml/mpds362/mpds362.pdf
footprint TI-PW20_N (SOP, 20-Leads, Body 6.5x4.4mm, Pitch 0.65mm, IPC Medium Density)
footprint TI-PW20_L (SOP, 20-Leads, Body 6.5x4.4mm, Pitch 0.65mm, IPC High Density)
footprint TI-PW20_M (SOP, 20-Leads, Body 6.5x4.4mm, Pitch 0.65mm, IPC Low Density)
pins: 1 DGND (power) "Digital ground", 2 DIN (in) "Digital serial data input", 3 SCLK (in) "Serial clock input", 4 FS (in) "Frame sync input", 5 ~{PRE} (in) "Preset input", 6 OUTE (out) "DAC output", 7 OUTF (out) "DAC output", 8 OUTG (out) "DAC output", 9 OUTH (out) "DAC output", 10 AGND (power) "Analog ground", 11 AVDD (power) "Analog power supply", 12 OUTA (out) "DAC output", 13 OUTB (out) "DAC output", 14 OUTC (out) "DAC output", 15 OUTD (out) "DAC output", 16 REF (io) "Voltage reference input/output", 17 MODE (in) "DSP/uC mode pin. High = uC mode, NC = DSP mode.", 18 ~{LDAC} (in) "Load DAC. The DAC outputs are only updated, if this signal is low. It is an asynchronous input.", 19 DOUT (out) "Digital serial data output", 20 DVDD (power) "Digital power supply"

## TLV5633CDW
designator U?
12-Bit DAC Parallel Voltage Out Programmable Internal Reference Settling Time, Power Consumption, 8-Bit uController Compatible Interface, 0 to 70 degC, 20-pin SOIC (DW20), Green (RoHS & no Sb/Br); Manufacturer: Texas Instruments; PartNumber: TLV5633CDW; DAC Channels: 1; DNL(Max)(+/-LSB): 0.5; INL(Max)(+/-LSB): 3; Power Consumption(Typ)(mW): 2.7; Resolution(Bits): 12; SFDR(dB): 74; SNR(dB): 78; SubFamily: Precision DAC (=<10MSPS); DatasheetVersion: SLAS190C; PackageVersion: 4040000-4/G, 01/2011; PackageReference: DW20; PackageDescription: 20-Pin Plastic Small Outline, Body 12.8 x 7.5 mm, Pitch 1.27 mm; Supplier 1: Digi-Key; Supplier Part Number 1: 296-2314-5-ND; Supplier 2: Mouser; Supplier Part Number 2: 595-TLV5633CDW; Eco-Plan: Green (RoHS & no Sb/Br); Interface: Parallel; Settling Time(us): 1; Mounting Technology: Surface Mount; Code_JEDEC: MO-013; ComponentLink1Description: Manufacturer URL; ComponentLink1URL: http://www.ti.com/; ComponentLink2Description: Datasheet; ComponentLink2URL: http://www.ti.com/general/docs/lit/getliterature.tsp?genericPartNumber=TLV5633&fileType=pdf; ComponentLink3Description: Package Specification; ComponentLink3URL: http://www.ti.com/lit/ml/mpds173a/mpds173a.pdf
footprint TI-DW20_N (SOIC, 20-Leads, Body 12.8x7.5mm, Pitch 1.27mm, IPC Medium Density)
footprint TI-DW20_L (SOIC, 20-Leads, Body 12.8x7.5mm, Pitch 1.27mm, IPC High Density)
footprint TI-DW20_M (SOIC, 20-Leads, Body 12.8x7.5mm, Pitch 1.27mm, IPC Low Density)
pins: 1 D2 (in) "Data input", 2 D3 (in) "Data input", 3 D4 (in) "Data input", 4 D5 (in) "Data input", 5 D6 (in) "Data input", 6 D7 (in) "Data input", 7 A1 (in) "Address input", 8 A0 (in) "Address input", 9 SPD (in) "Speed select. Digital input", 10 DVDD (power) "Positive power supply (digital part)", 11 AVDD (power) "Positive power supply (analog part)", 12 REF (io) "Analog reference voltage input/output", 13 OUT (out) "DAC analog voltage output", 14 AGND (power) "Ground", 15 ~{PWR} (in) "Power down. Digital input active low", 16 ~{LDAC} (in) "Load DAC. Digital input active low, used to load DAC output", 17 ~{WE} (in) "Write enable. Digital input active low, used to latch data", 18 ~{CS} (in) "Chip select. Digital input active low, used to enable/disable inputs", 19 D0 (in) "Data input", 20 D1 (in) "Data input"

## TLV5633CDWG4
designator U?
12-Bit DAC Parallel Voltage Out Programmable Internal Reference Settling Time, Power Consumption, 8-Bit uController Compatible Interface, 0 to 70 degC, 20-pin SOIC (DW20), Green (RoHS & no Sb/Br); Manufacturer: Texas Instruments; PartNumber: TLV5633CDWG4; DAC Channels: 1; DNL(Max)(+/-LSB): 0.5; INL(Max)(+/-LSB): 3; Power Consumption(Typ)(mW): 2.7; Resolution(Bits): 12; SFDR(dB): 74; SNR(dB): 78; SubFamily: Precision DAC (=<10MSPS); DatasheetVersion: SLAS190C; PackageVersion: 4040000-4/G, 01/2011; PackageReference: DW20; PackageDescription: 20-Pin Plastic Small Outline, Body 12.8 x 7.5 mm, Pitch 1.27 mm; Supplier 1: Digi-Key; Supplier Part Number 1: TLV5633CDWG4-ND; Supplier 2: Mouser; Supplier Part Number 2: 595-TLV5633CDWG4; Eco-Plan: Green (RoHS & no Sb/Br); Interface: Parallel; Settling Time(us): 1; Mounting Technology: Surface Mount; Code_JEDEC: MO-013; ComponentLink1Description: Manufacturer URL; ComponentLink1URL: http://www.ti.com/; ComponentLink2Description: Datasheet; ComponentLink2URL: http://www.ti.com/general/docs/lit/getliterature.tsp?genericPartNumber=TLV5633&fileType=pdf; ComponentLink3Description: Package Specification; ComponentLink3URL: http://www.ti.com/lit/ml/mpds173a/mpds173a.pdf
footprint TI-DW20_N (SOIC, 20-Leads, Body 12.8x7.5mm, Pitch 1.27mm, IPC Medium Density)
footprint TI-DW20_L (SOIC, 20-Leads, Body 12.8x7.5mm, Pitch 1.27mm, IPC High Density)
footprint TI-DW20_M (SOIC, 20-Leads, Body 12.8x7.5mm, Pitch 1.27mm, IPC Low Density)
pins: 1 D2 (in) "Data input", 2 D3 (in) "Data input", 3 D4 (in) "Data input", 4 D5 (in) "Data input", 5 D6 (in) "Data input", 6 D7 (in) "Data input", 7 A1 (in) "Address input", 8 A0 (in) "Address input", 9 SPD (in) "Speed select. Digital input", 10 DVDD (power) "Positive power supply (digital part)", 11 AVDD (power) "Positive power supply (analog part)", 12 REF (io) "Analog reference voltage input/output", 13 OUT (out) "DAC analog voltage output", 14 AGND (power) "Ground", 15 ~{PWR} (in) "Power down. Digital input active low", 16 ~{LDAC} (in) "Load DAC. Digital input active low, used to load DAC output", 17 ~{WE} (in) "Write enable. Digital input active low, used to latch data", 18 ~{CS} (in) "Chip select. Digital input active low, used to enable/disable inputs", 19 D0 (in) "Data input", 20 D1 (in) "Data input"

## TLV5633CPW
designator U?
12-Bit DAC Parallel Voltage Out Programmable Internal Reference Settling Time, Power Consumption, 8-Bit uController Compatible Interface, 0 to 70 degC, 20-pin SOP (PW20), Green (RoHS & no Sb/Br); Manufacturer: Texas Instruments; PartNumber: TLV5633CPW; DAC Channels: 1; DNL(Max)(+/-LSB): 0.5; INL(Max)(+/-LSB): 3; Power Consumption(Typ)(mW): 2.7; Resolution(Bits): 12; SFDR(dB): 74; SNR(dB): 78; SubFamily: Precision DAC (=<10MSPS); DatasheetVersion: SLAS190C; PackageVersion: 4040064-5/G, 02/2011; PackageReference: PW20; PackageDescription: 20-Pin Plastic Small Outline, Body 6.5 x 4.4 mm, Pitch 0.65 mm; Supplier 1: Digi-Key; Supplier Part Number 1: TLV5633CPW-ND; Supplier 2: Mouser; Supplier Part Number 2: 595-TLV5633CPW; Eco-Plan: Green (RoHS & no Sb/Br); Interface: Parallel; Settling Time(us): 1; Mounting Technology: Surface Mount; Code_JEDEC: MO-153; ComponentLink1Description: Manufacturer URL; ComponentLink1URL: http://www.ti.com/; ComponentLink2Description: Datasheet; ComponentLink2URL: http://www.ti.com/general/docs/lit/getliterature.tsp?genericPartNumber=TLV5633&fileType=pdf; ComponentLink3Description: Package Specification; ComponentLink3URL: http://www.ti.com.cn/cn/lit/ml/mpds362/mpds362.pdf
footprint TI-PW20_N (SOP, 20-Leads, Body 6.5x4.4mm, Pitch 0.65mm, IPC Medium Density)
footprint TI-PW20_L (SOP, 20-Leads, Body 6.5x4.4mm, Pitch 0.65mm, IPC High Density)
footprint TI-PW20_M (SOP, 20-Leads, Body 6.5x4.4mm, Pitch 0.65mm, IPC Low Density)
pins: 1 D2 (in) "Data input", 2 D3 (in) "Data input", 3 D4 (in) "Data input", 4 D5 (in) "Data input", 5 D6 (in) "Data input", 6 D7 (in) "Data input", 7 A1 (in) "Address input", 8 A0 (in) "Address input", 9 SPD (in) "Speed select. Digital input", 10 DVDD (power) "Positive power supply (digital part)", 11 AVDD (power) "Positive power supply (analog part)", 12 REF (io) "Analog reference voltage input/output", 13 OUT (out) "DAC analog voltage output", 14 AGND (power) "Ground", 15 ~{PWR} (in) "Power down. Digital input active low", 16 ~{LDAC} (in) "Load DAC. Digital input active low, used to load DAC output", 17 ~{WE} (in) "Write enable. Digital input active low, used to latch data", 18 ~{CS} (in) "Chip select. Digital input active low, used to enable/disable inputs", 19 D0 (in) "Data input", 20 D1 (in) "Data input"

## TLV5633CPWG4
designator U?
12-Bit DAC Parallel Voltage Out Programmable Internal Reference Settling Time, Power Consumption, 8-Bit uController Compatible Interface, 0 to 70 degC, 20-pin SOP (PW20), Green (RoHS & no Sb/Br); Manufacturer: Texas Instruments; PartNumber: TLV5633CPWG4; DAC Channels: 1; DNL(Max)(+/-LSB): 0.5; INL(Max)(+/-LSB): 3; Power Consumption(Typ)(mW): 2.7; Resolution(Bits): 12; SFDR(dB): 74; SNR(dB): 78; SubFamily: Precision DAC (=<10MSPS); DatasheetVersion: SLAS190C; PackageVersion: 4040064-5/G, 02/2011; PackageReference: PW20; PackageDescription: 20-Pin Plastic Small Outline, Body 6.5 x 4.4 mm, Pitch 0.65 mm; Supplier 1: Digi-Key; Supplier Part Number 1: TLV5633CPWG4-ND; Supplier 2: Mouser; Supplier Part Number 2: 595-TLV5633CPWG4; Eco-Plan: Green (RoHS & no Sb/Br); Interface: Parallel; Settling Time(us): 1; Mounting Technology: Surface Mount; Code_JEDEC: MO-153; ComponentLink1Description: Manufacturer URL; ComponentLink1URL: http://www.ti.com/; ComponentLink2Description: Datasheet; ComponentLink2URL: http://www.ti.com/general/docs/lit/getliterature.tsp?genericPartNumber=TLV5633&fileType=pdf; ComponentLink3Description: Package Specification; ComponentLink3URL: http://www.ti.com.cn/cn/lit/ml/mpds362/mpds362.pdf
footprint TI-PW20_N (SOP, 20-Leads, Body 6.5x4.4mm, Pitch 0.65mm, IPC Medium Density)
footprint TI-PW20_L (SOP, 20-Leads, Body 6.5x4.4mm, Pitch 0.65mm, IPC High Density)
footprint TI-PW20_M (SOP, 20-Leads, Body 6.5x4.4mm, Pitch 0.65mm, IPC Low Density)
pins: 1 D2 (in) "Data input", 2 D3 (in) "Data input", 3 D4 (in) "Data input", 4 D5 (in) "Data input", 5 D6 (in) "Data input", 6 D7 (in) "Data input", 7 A1 (in) "Address input", 8 A0 (in) "Address input", 9 SPD (in) "Speed select. Digital input", 10 DVDD (power) "Positive power supply (digital part)", 11 AVDD (power) "Positive power supply (analog part)", 12 REF (io) "Analog reference voltage input/output", 13 OUT (out) "DAC analog voltage output", 14 AGND (power) "Ground", 15 ~{PWR} (in) "Power down. Digital input active low", 16 ~{LDAC} (in) "Load DAC. Digital input active low, used to load DAC output", 17 ~{WE} (in) "Write enable. Digital input active low, used to latch data", 18 ~{CS} (in) "Chip select. Digital input active low, used to enable/disable inputs", 19 D0 (in) "Data input", 20 D1 (in) "Data input"

## TLV5633IDW
designator U?
12-Bit DAC Parallel Voltage Out Programmable Internal Reference Settling Time, Power Consumption, 8-Bit uController Compatible Interface, -40 to 85 degC, 20-pin SOIC (DW20), Green (RoHS & no Sb/Br); Manufacturer: Texas Instruments; PartNumber: TLV5633IDW; DAC Channels: 1; DNL(Max)(+/-LSB): 0.5; INL(Max)(+/-LSB): 3; Power Consumption(Typ)(mW): 2.7; Resolution(Bits): 12; SFDR(dB): 74; SNR(dB): 78; SubFamily: Precision DAC (=<10MSPS); DatasheetVersion: SLAS190C; PackageVersion: 4040000-4/G, 01/2011; PackageReference: DW20; PackageDescription: 20-Pin Plastic Small Outline, Body 12.8 x 7.5 mm, Pitch 1.27 mm; Supplier 1: Digi-Key; Supplier Part Number 1: 296-3071-5-ND; Supplier 2: Newark; Supplier Part Number 2: 76C8981; Supplier 3: Mouser; Supplier Part Number 3: 595-TLV5633IDW; Eco-Plan: Green (RoHS & no Sb/Br); Interface: Parallel; Settling Time(us): 1; Mounting Technology: Surface Mount; Code_JEDEC: MO-013; ComponentLink1Description: Manufacturer URL; ComponentLink1URL: http://www.ti.com/; ComponentLink2Description: Datasheet; ComponentLink2URL: http://www.ti.com/general/docs/lit/getliterature.tsp?genericPartNumber=TLV5633&fileType=pdf; ComponentLink3Description: Package Specification; ComponentLink3URL: http://www.ti.com/lit/ml/mpds173a/mpds173a.pdf
footprint TI-DW20_N (SOIC, 20-Leads, Body 12.8x7.5mm, Pitch 1.27mm, IPC Medium Density)
footprint TI-DW20_L (SOIC, 20-Leads, Body 12.8x7.5mm, Pitch 1.27mm, IPC High Density)
footprint TI-DW20_M (SOIC, 20-Leads, Body 12.8x7.5mm, Pitch 1.27mm, IPC Low Density)
pins: 1 D2 (in) "Data input", 2 D3 (in) "Data input", 3 D4 (in) "Data input", 4 D5 (in) "Data input", 5 D6 (in) "Data input", 6 D7 (in) "Data input", 7 A1 (in) "Address input", 8 A0 (in) "Address input", 9 SPD (in) "Speed select. Digital input", 10 DVDD (power) "Positive power supply (digital part)", 11 AVDD (power) "Positive power supply (analog part)", 12 REF (io) "Analog reference voltage input/output", 13 OUT (out) "DAC analog voltage output", 14 AGND (power) "Ground", 15 ~{PWR} (in) "Power down. Digital input active low", 16 ~{LDAC} (in) "Load DAC. Digital input active low, used to load DAC output", 17 ~{WE} (in) "Write enable. Digital input active low, used to latch data", 18 ~{CS} (in) "Chip select. Digital input active low, used to enable/disable inputs", 19 D0 (in) "Data input", 20 D1 (in) "Data input"

## TLV5633IDWG4
designator U?
12-Bit DAC Parallel Voltage Out Programmable Internal Reference Settling Time, Power Consumption, 8-Bit uController Compatible Interface, -40 to 85 degC, 20-pin SOIC (DW20), Green (RoHS & no Sb/Br); Manufacturer: Texas Instruments; PartNumber: TLV5633IDWG4; DAC Channels: 1; DNL(Max)(+/-LSB): 0.5; INL(Max)(+/-LSB): 3; Power Consumption(Typ)(mW): 2.7; Resolution(Bits): 12; SFDR(dB): 74; SNR(dB): 78; SubFamily: Precision DAC (=<10MSPS); DatasheetVersion: SLAS190C; PackageVersion: 4040000-4/G, 01/2011; PackageReference: DW20; PackageDescription: 20-Pin Plastic Small Outline, Body 12.8 x 7.5 mm, Pitch 1.27 mm; Supplier 1: Digi-Key; Supplier Part Number 1: TLV5633IDWG4-ND; Supplier 2: Mouser; Supplier Part Number 2: 595-TLV5633IDWG4; Eco-Plan: Green (RoHS & no Sb/Br); Interface: Parallel; Settling Time(us): 1; Mounting Technology: Surface Mount; Code_JEDEC: MO-013; ComponentLink1Description: Manufacturer URL; ComponentLink1URL: http://www.ti.com/; ComponentLink2Description: Datasheet; ComponentLink2URL: http://www.ti.com/general/docs/lit/getliterature.tsp?genericPartNumber=TLV5633&fileType=pdf; ComponentLink3Description: Package Specification; ComponentLink3URL: http://www.ti.com/lit/ml/mpds173a/mpds173a.pdf
footprint TI-DW20_N (SOIC, 20-Leads, Body 12.8x7.5mm, Pitch 1.27mm, IPC Medium Density)
footprint TI-DW20_L (SOIC, 20-Leads, Body 12.8x7.5mm, Pitch 1.27mm, IPC High Density)
footprint TI-DW20_M (SOIC, 20-Leads, Body 12.8x7.5mm, Pitch 1.27mm, IPC Low Density)
pins: 1 D2 (in) "Data input", 2 D3 (in) "Data input", 3 D4 (in) "Data input", 4 D5 (in) "Data input", 5 D6 (in) "Data input", 6 D7 (in) "Data input", 7 A1 (in) "Address input", 8 A0 (in) "Address input", 9 SPD (in) "Speed select. Digital input", 10 DVDD (power) "Positive power supply (digital part)", 11 AVDD (power) "Positive power supply (analog part)", 12 REF (io) "Analog reference voltage input/output", 13 OUT (out) "DAC analog voltage output", 14 AGND (power) "Ground", 15 ~{PWR} (in) "Power down. Digital input active low", 16 ~{LDAC} (in) "Load DAC. Digital input active low, used to load DAC output", 17 ~{WE} (in) "Write enable. Digital input active low, used to latch data", 18 ~{CS} (in) "Chip select. Digital input active low, used to enable/disable inputs", 19 D0 (in) "Data input", 20 D1 (in) "Data input"

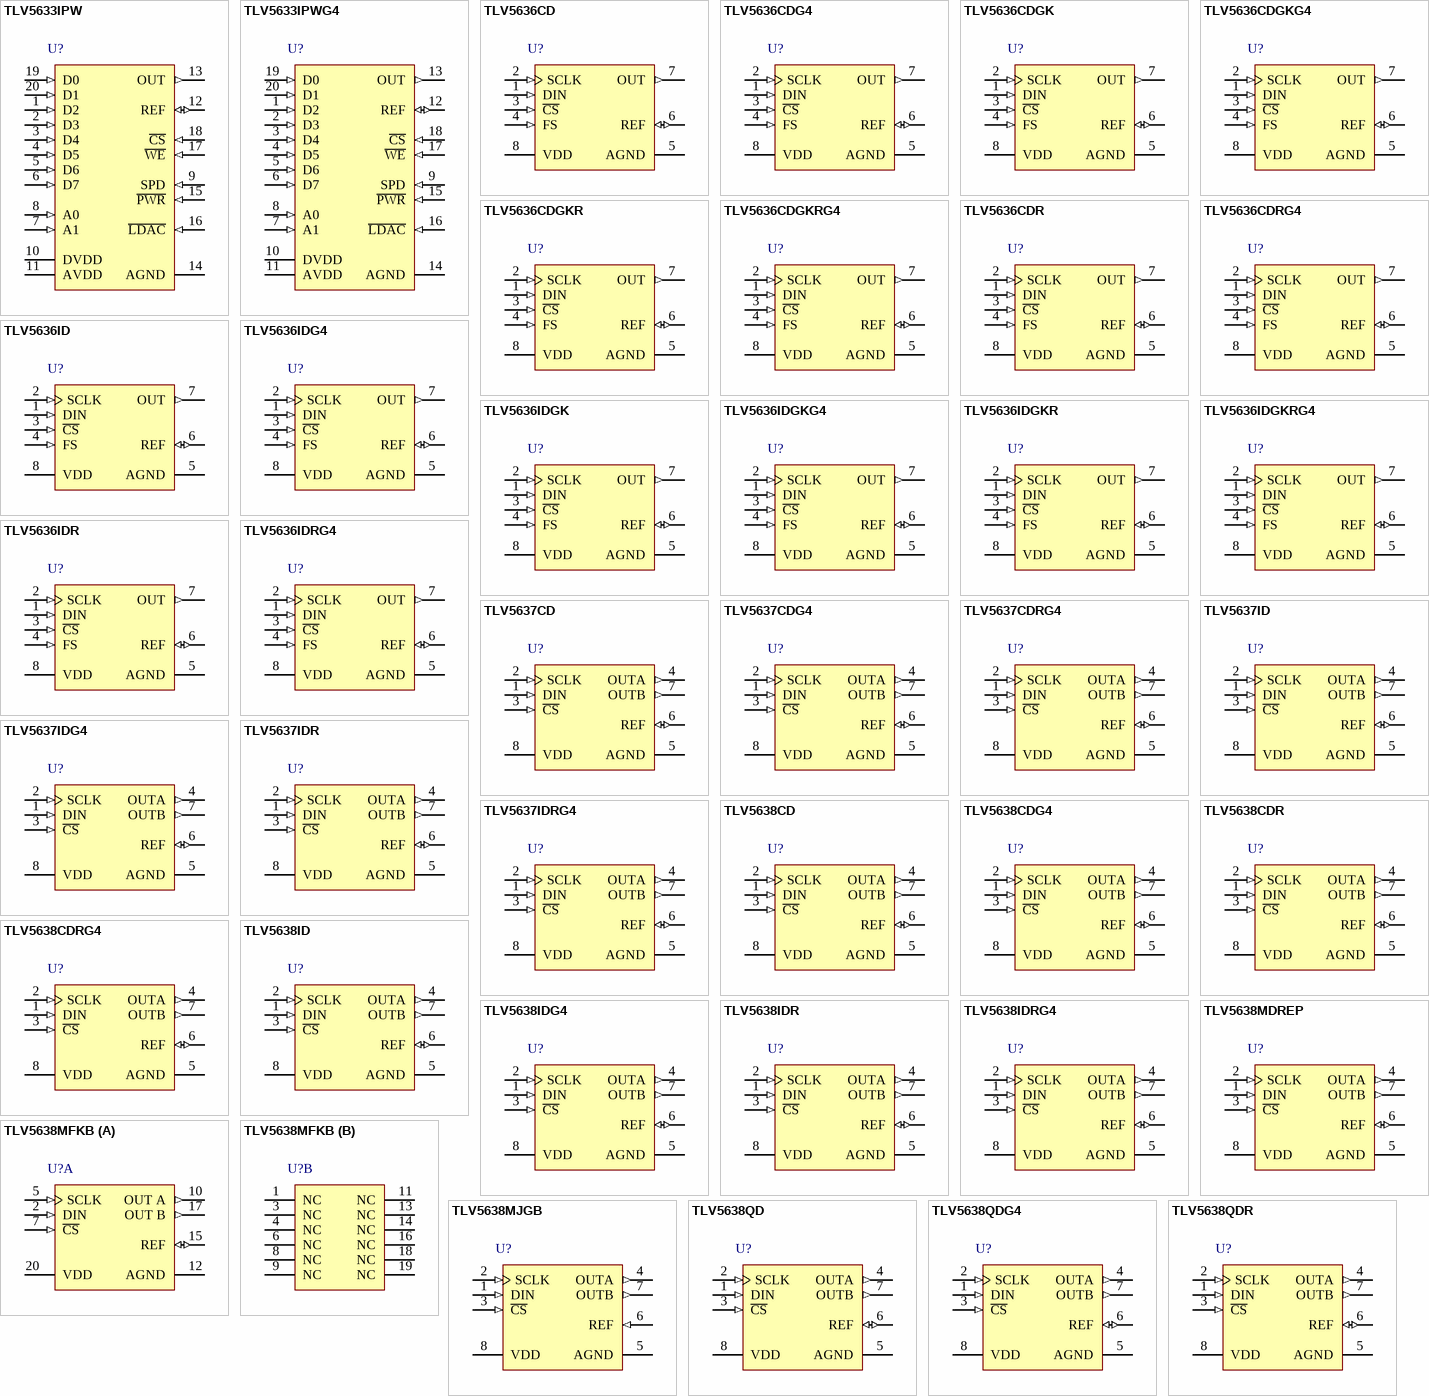
[diagram p70: symbols TLV5633IPW to TLV5638QDR]

## TLV5633IPW
designator U?
12-Bit DAC Parallel Voltage Out Programmable Internal Reference Settling Time, Power Consumption, 8-Bit uController Compatible Interface, -40 to 85 degC, 20-pin SOP (PW20), Green (RoHS & no Sb/Br); Manufacturer: Texas Instruments; PartNumber: TLV5633IPW; DAC Channels: 1; DNL(Max)(+/-LSB): 0.5; INL(Max)(+/-LSB): 3; Power Consumption(Typ)(mW): 2.7; Resolution(Bits): 12; SFDR(dB): 74; SNR(dB): 78; SubFamily: Precision DAC (=<10MSPS); DatasheetVersion: SLAS190C; PackageVersion: 4040064-5/G, 02/2011; PackageReference: PW20; PackageDescription: 20-Pin Plastic Small Outline, Body 6.5 x 4.4 mm, Pitch 0.65 mm; Supplier 1: Digi-Key; Supplier Part Number 1: 296-3072-5-ND; Supplier 2: Newark; Supplier Part Number 2: 76C8983; Supplier 3: Mouser; Supplier Part Number 3: 595-TLV5633IPW; Eco-Plan: Green (RoHS & no Sb/Br); Interface: Parallel; Settling Time(us): 1; Mounting Technology: Surface Mount; Code_JEDEC: MO-153; ComponentLink1Description: Manufacturer URL; ComponentLink1URL: http://www.ti.com/; ComponentLink2Description: Datasheet; ComponentLink2URL: http://www.ti.com/general/docs/lit/getliterature.tsp?genericPartNumber=TLV5633&fileType=pdf; ComponentLink3Description: Package Specification; ComponentLink3URL: http://www.ti.com.cn/cn/lit/ml/mpds362/mpds362.pdf
footprint TI-PW20_N (SOP, 20-Leads, Body 6.5x4.4mm, Pitch 0.65mm, IPC Medium Density)
footprint TI-PW20_L (SOP, 20-Leads, Body 6.5x4.4mm, Pitch 0.65mm, IPC High Density)
footprint TI-PW20_M (SOP, 20-Leads, Body 6.5x4.4mm, Pitch 0.65mm, IPC Low Density)
pins: 1 D2 (in) "Data input", 2 D3 (in) "Data input", 3 D4 (in) "Data input", 4 D5 (in) "Data input", 5 D6 (in) "Data input", 6 D7 (in) "Data input", 7 A1 (in) "Address input", 8 A0 (in) "Address input", 9 SPD (in) "Speed select. Digital input", 10 DVDD (power) "Positive power supply (digital part)", 11 AVDD (power) "Positive power supply (analog part)", 12 REF (io) "Analog reference voltage input/output", 13 OUT (out) "DAC analog voltage output", 14 AGND (power) "Ground", 15 ~{PWR} (in) "Power down. Digital input active low", 16 ~{LDAC} (in) "Load DAC. Digital input active low, used to load DAC output", 17 ~{WE} (in) "Write enable. Digital input active low, used to latch data", 18 ~{CS} (in) "Chip select. Digital input active low, used to enable/disable inputs", 19 D0 (in) "Data input", 20 D1 (in) "Data input"